# Altium footprint library PCB - CONNECTOR - MILL-MAX - MILL-MAX 416-93-226-41-008000.PCBLIB: 1 footprints
Each footprint in its own frame and in the unit in brackets; x right, y up, seen from the top. Pads: shape width x height; smd on the part's side, far side on the other; paste and mask are expansions set on the pad; w line width, h text height; cw(c..) or ccw(c..) is an arc to the next point about the centre after c.
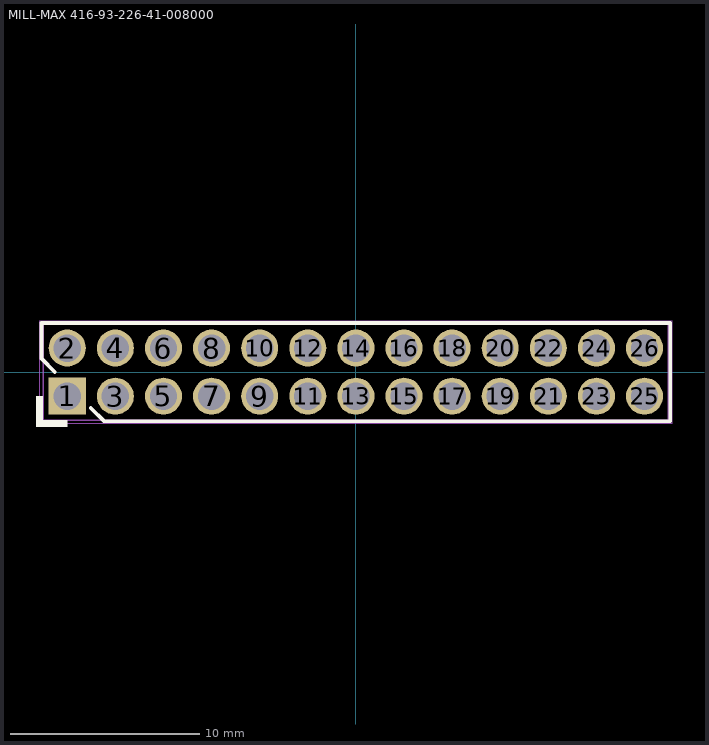
[diagram p0: the footprint, top view; thin cyan lines are the x and y axes]

## MILL-MAX 416-93-226-41-008000 [mil] "0.1\" elevated double row strips, stacking, 0.472\" (11.99mm) high"
height 110
pads (26):
  rect 77x77 hole 57: 1(-600,-50)
  round 77 hole 57: 2(-600,50) 3(-500,-50) 4(-500,50) 5(-400,-50) 6(-400,50) 7(-300,-50) 8(-300,50) 9(-200,-50) 10(-200,50) 11(-100,-50) 12(-100,50) 13(0,-50) 14(0,50) 15(100,-50) 16(100,50) 17(200,-50) 18(200,50) 19(300,-50) 20(300,50) 21(400,-50) 22(400,50) 23(500,-50) 24(500,50) 25(600,-50) 26(600,50)
Top Overlay:
  rectangle: -665.35,-114.17 -600,-100
  rectangle: -665.35,-114.17 -650,-50
  lines w7.87: -625.98,0 -653.54,28.54 -653.54,102.36 653.54,102.36 653.54,-102.36 -522.64,-102.36 -551.18,-74.8
Mechanical 13:
  lines w3.94: -650,-100 650,-100 650,100 -650,100 -650,-100
Mechanical 15:
  lines w1.97: -657.48,-106.3 -657.48,106.3 657.48,106.3 657.48,-106.3 -657.48,-106.3
3D body "mill-max-416-93-226-41-008000.step": height 110, standoff -480, extent -649.82,-99.99 650.18,100.01